# Altium schematic symbol library OpenBrewie.SchLib: 10 symbols
Pins are listed as number, name and electrical type; pins without a type are passive.

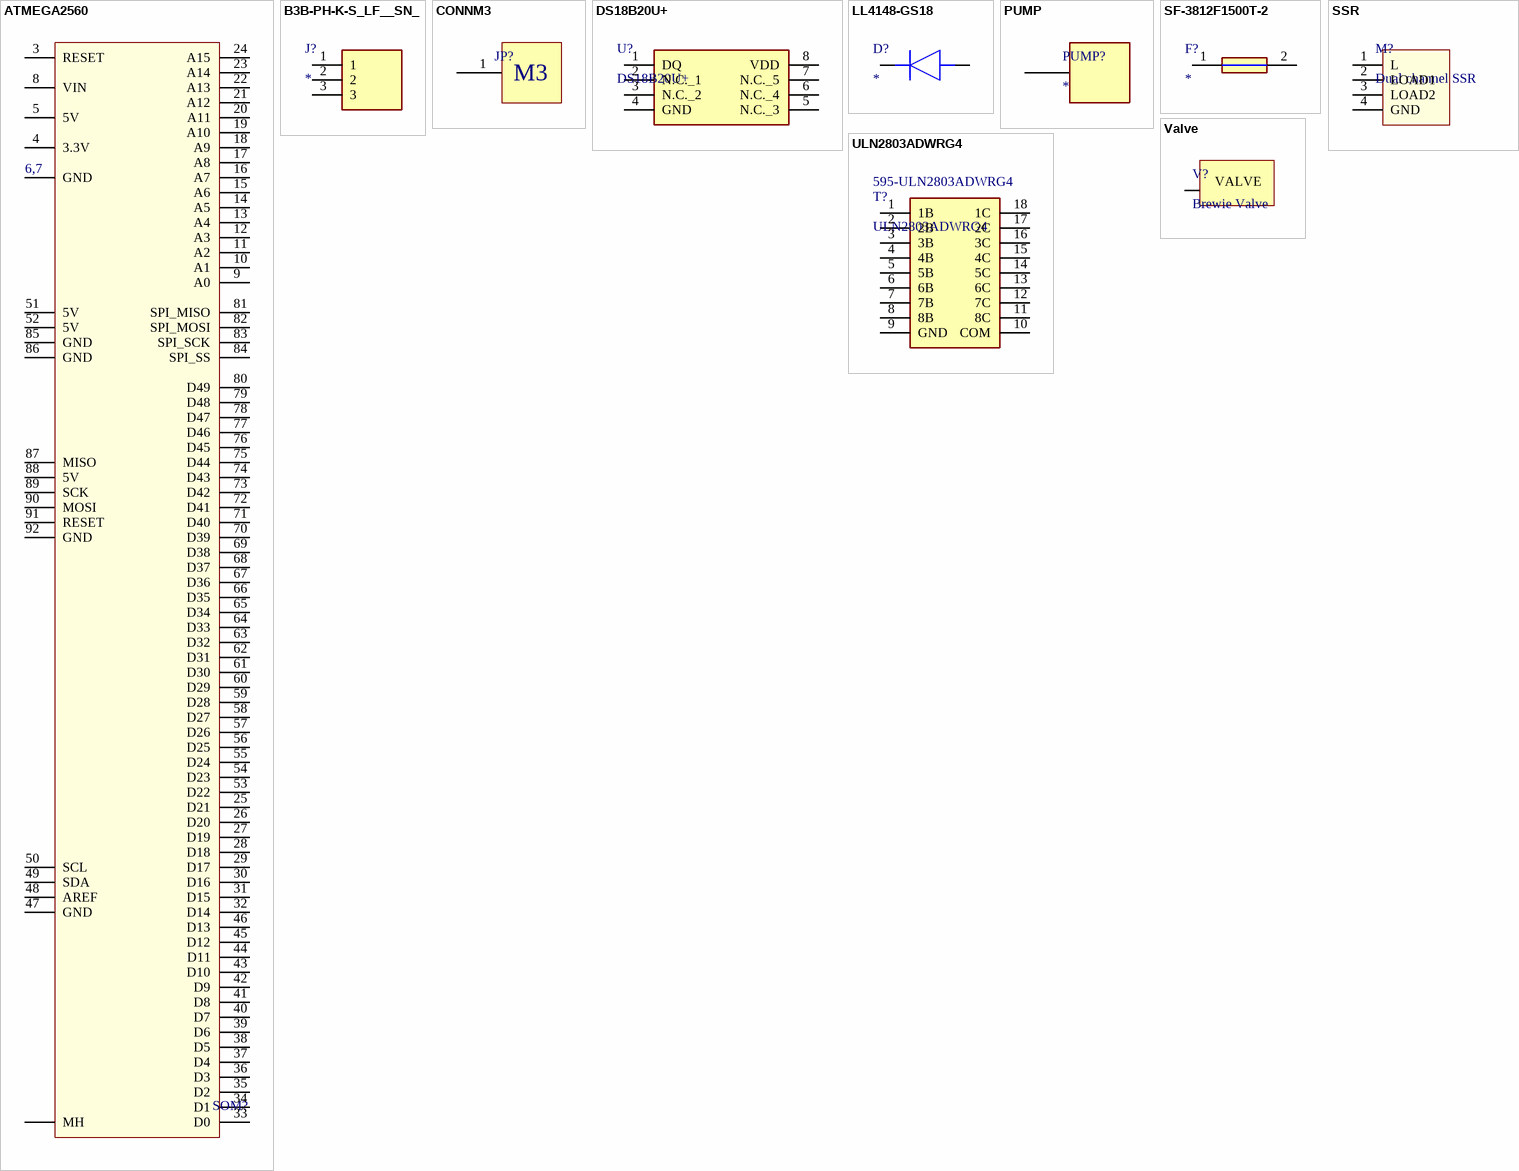
[diagram p0: symbols ATMEGA2560 to Valve]

## ATMEGA2560
designator SOM?
Arduino: ATMega 2560
footprint ATMEGA2560
pins: 3 RESET, 4 3.3V (power), 5 5V (power), 6 GND (power), 7 GND (power), 8 VIN (power), 9 A0, 10 A1, 11 A2, 12 A3, 13 A4, 14 A5, 15 A6, 16 A7, 17 A8, 18 A9, 19 A10, 20 A11, 21 A12, 22 A13, 23 A14, 24 A15, 25 D21, 26 D20, 27 D19, 28 D18, 29 D17, 30 D16, 31 D15, 32 D14, 33 D0, 34 D1, 35 D2, 36 D3, 37 D4, 38 D5, 39 D6, 40 D7, 41 D8, 42 D9, 43 D10, 44 D11, 45 D12, 46 D13, 47 GND (power), 48 AREF, 49 SDA, 50 SCL, 51 5V (power), 52 5V (power), 53 D22, 54 D23, 55 D24, 56 D25, 57 D26, 58 D27, 59 D28, 60 D29, 61 D30, 62 D31, 63 D32, 64 D33, 65 D34, 66 D35, 67 D36, 68 D37, 69 D38, 70 D39, 71 D40, 72 D41, 73 D42, 74 D43, 75 D44, 76 D45, 77 D46, 78 D47, 79 D48, 80 D49, 81 SPI_MISO, 82 SPI_MOSI, 83 SPI_SCK, 84 SPI_SS, 85 GND (power), 86 GND (power), 87 MISO, 88 5V (power), 89 SCK, 90 MOSI, 91 RESET, 92 GND (power), MH1 MH, MH2 MH, MH3 MH, MH4 MH, MH5 MH
text: 6,7

## B3B-PH-K-S_LF__SN_
designator J?
Connector; Manufacturer_Name: JST (JAPAN SOLDERLESS TERMINALS); Manufacturer_Part_Number: B3B-PH-K-S(LF)(SN); Datasheet Link: http://www.jst-mfg.com/product/pdf/eng/ePH.pdf; Height: 6mm; Arrow Part Number: B3B-PH-K-S(LF)(SN); Arrow Price/Stock: https://www.arrow.com/en/products/b3b-ph-k-s-lf-sn/jst-manufacturing; RS-Online: 8201431P
footprint SHDR3W50P0X200_1X3_790X450X600P
pins: 1, 2, 3

## CONNM3
designator JP?, comment Adafruit Standoff 6mm  (value not drawn)
Manufacturer: Adafruit; Height: 6mm
footprint 7466003 (SMD with internal through-hole thread, M3-6mm)
pins: 1
text: M3

## DS18B20U+
designator U?
Te,perature sensor; Manufacturer_Name: Maxim Integrated; Datasheet Link: https://datasheets.maximintegrated.com/en/ds/DS18B20.pdf; Height: 1.1mm; Manufacturer_Part_Number: DS18B20U+; Mouser Part Number: 700-DS18B20U; Mouser Price/Stock: https://www.mouser.co.uk/ProductDetail/Maxim-Integrated/DS18B20U%2b?qs=7H2Jq%252ByxpJLxAEcPXZtrFQ%3D%3D; Arrow Part Number: DS18B20U+; Arrow Price/Stock: https://www.arrow.com/en/products/ds18b20u/maxim-integrated?region=nac; Supplier 1: RSComponents; Supplier Part Number 1: 1901809P
footprint SOP65P490X110-8N
pins: 1 DQ, 2 N.C._1, 3 N.C._2, 4 GND, 5 N.C._3, 6 N.C._4, 7 N.C._5, 8 VDD

## LL4148-GS18
designator D?
Diode; Manufacturer_Name: Vishay; Manufacturer_Part_Number: LL4148-GS18; Datasheet Link: https://www.vishay.com/docs/85557/ll4148.pdf; Mouser Part Number: 78-LL4148-GS18; Mouser Price/Stock: https://www.mouser.co.uk/ProductDetail/Vishay-Semiconductors/LL4148-GS18?qs=YkIJFe%252BtFEUsKqcD4T1jvg%3D%3D; Arrow Part Number: LL4148-GS18; Arrow Price/Stock: https://www.arrow.com/en/products/ll4148-gs18/vishay?region=nac
footprint SOD-80
pins: 1 K, 2 A

## PUMP
designator PUMP?
footprint PUMP
pins: 0 CONN

## SF-3812F1500T-2
designator F?
Fuse; Manufacturer_Name: Bourns; Manufacturer_Part_Number: SF-3812F1500T-2; Description: 15 A 250 V AC 80 V DC Fuse Board Mount (Cartridge Style Excluded) Surface Mount 2-SMD; Datasheet Link: https://componentsearchengine.com//SF-3812F1500T-2.pdf; Height: 3.3mm; Mouser Part Number: 652-SF-3812F1500T-2; Mouser Price/Stock: https://www.mouser.co.uk/ProductDetail/Bourns/SF-3812F1500T-2?qs=vLWxofP3U2y%252BowuZb8%2FTgg%3D%3D
footprint SF3812F1500T2
pins: 1, 2

## SSR
designator M?, comment Dual channel SSR
footprint SSR
pins: 1 L, 2 LOAD1, 3 LOAD2, 4 GND

## ULN2803ADWRG4
designator T?  Supplier Part Number 1: 595-ULN2803ADWRG4
Darlington; Manufacturer_Name: Texas Instruments; Datasheet Link: http://www.ti.com/lit/ds/symlink/uln2803a.pdf; Height: 2.65mm; Manufacturer_Part_Number: ULN2803ADWRG4; Mouser Part Number: 595-ULN2803ADWRG4; Mouser Price/Stock: https://www.mouser.co.uk/ProductDetail/Texas-Instruments/ULN2803ADWRG4?qs=pbofycSusePr3zMQZfJ%2FRA%3D%3D; Arrow Part Number: ULN2803ADWRG4; Arrow Price/Stock: https://www.arrow.com/en/products/uln2803adwrg4/texas-instruments; Supplier 1: Mouser
footprint SOIC127P1030X265-18N
pins: 1 1B, 2 2B, 3 3B, 4 4B, 5 5B, 6 6B, 7 7B, 8 8B, 9 GND, 10 COM, 11 8C, 12 7C, 13 6C, 14 5C, 15 4C, 16 3C, 17 2C, 18 1C

## Valve
designator V?, comment Brewie Valve
footprint Valve1
footprint Valve2
pins: 1 CONN (power)
text: VALVE